# Altium schematic symbol library AQ3045-01ETG.SchLib: 1 symbol
Pins are listed as number, name and electrical type; pins without a type are passive.

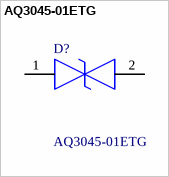
[diagram p0: symbol AQ3045-01ETG]

## AQ3045-01ETG
designator D?
LITTELFUSE - AQ3045-01ETG - DIODE, AEC-Q101, ESD PROTECTION, SOD-882; Geometry.Height: 0.42mm; Manufacturer_Name: LITTELFUSE; Manufacturer_Part_Number: AQ3045-01ETG; Mouser Part Number: 576-AQ3045-01ETG; Mouser Price/Stock: https://www.mouser.co.uk/ProductDetail/Littelfuse/AQ3045-01ETG?qs=lM4gFlnEeEMEfe%252B5jSw4OA%3D%3D; Arrow Part Number: AQ3045-01ETG; Arrow Price/Stock: https://www.arrow.com/en/products/aq3045-01etg/littelfuse?region=nac; Datasheet Link: http://m.littelfuse.com/~/media/electronics/datasheets/tvs_diode_arrays/littelfuse_tvs_diode_array_aq3045_datasheet.pdf.pdf
footprint AQ304501ETG
pins: 1, 2